# Altium schematic symbol library SMBT2907A.Schlib: 1 symbol
Pins are listed as number, name and electrical type; pins without a type are passive.

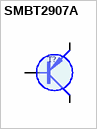
[diagram p0: symbol SMBT2907A]

## SMBT2907A
designator T?
SOT23    60V 0.6A 10/30nS 200MHz 8p(10V)
pins: 1 B, 2 E (oe), 3 C (oc)
1 alternate drawing of the same symbol